# EAGLE library part TB6612FNG(O,C,8,EL (library TB6612FNG)
Stepping Motor Driver Ic Unipolor Copper Wire 8"
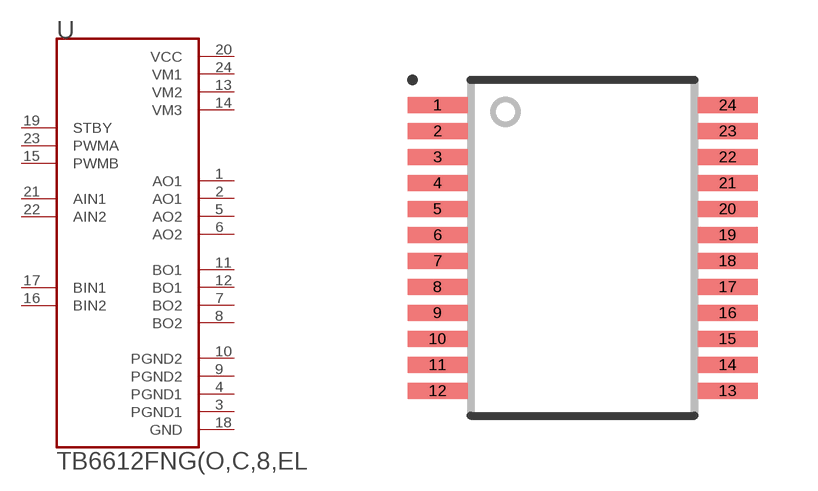
[diagram p0: symbol with the pads of SOP65P760X160-24N; footprint SOP65P760X160-24N]

Designator prefix U

## TB6612FNG(O,C,8,EL (AVAILABILITY: Unavailable; DESCRIPTION: Stepping Motor Driver Ic Unipolor Copper Wire 8; MF: Toshiba; MP: TB6612FNG_O,C,8,EL; PACKAGE: SSOP-24 Toshiba; PRICE: None)  [SOP65P760X160-24N]
1  AO1
2  AO1
3  PGND1  pas
4  PGND1  pas
5  AO2
6  AO2
7  BO2
8  BO2
9  PGND2  pas
10  PGND2  pas
11  BO1
12  BO1
13  VM2  pwr
14  VM3  pwr
15  PWMB  in
16  BIN2  in
17  BIN1  in
18  GND  pas
19  STBY  in
20  VCC  pwr
21  AIN1  in
22  AIN2  in
23  PWMA  in
24  VM1  pwr

## Footprint SOP65P760X160-24N (pad centres in mm)
smd 1.5 x 0.4: 1 -3.625,3.575; 2 -3.625,2.925; 3 -3.625,2.275; 4 -3.625,1.625; 5 -3.625,0.975; 6 -3.625,0.325; 7 -3.625,-0.325; 8 -3.625,-0.975; 9 -3.625,-1.625; 10 -3.625,-2.275; 11 -3.625,-2.925; 12 -3.625,-3.575; 13 3.625,-3.575; 14 3.625,-2.925; 15 3.625,-2.275; 16 3.625,-1.625; 17 3.625,-0.975; 18 3.625,-0.325; 19 3.625,0.325; 20 3.625,0.975; 21 3.625,1.625; 22 3.625,2.275; 23 3.625,2.925; 24 3.625,3.575